# EAGLE library part 74*131 (library 74xx-eu)
3-line to 8-line DECODER/DEMULTIPLEXER, address register
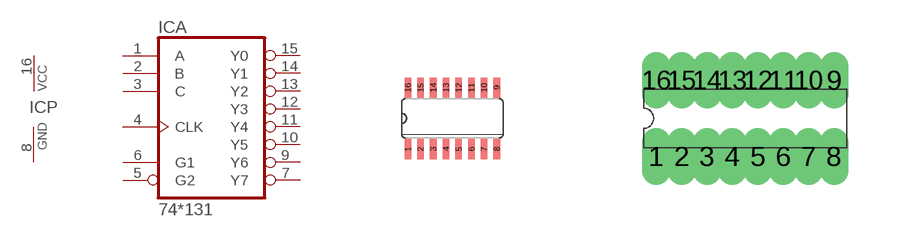
[diagram p85: symbol with the pads of SO16; footprints SO16, DIL16]

Designator prefix IC; gates A=74131 P=PWRN

## 74131D, 74HC131D  [SO16]
1  A:A  in
2  A:B  in
3  A:C  in
4  A:CLK  in
5  A:G2  in
6  A:G1  in
7  A:Y7  out
8  P:GND  pwr
9  A:Y6  out
10  A:Y5  out
11  A:Y4  out
12  A:Y3  out
13  A:Y2  out
14  A:Y1  out
15  A:Y0  out
16  P:VCC  pwr

## 74131N, 74HC131N  [DIL16]
Pads as for SO16

## Footprint SO16 (pad centres in mm)
Small Outline package 150 mil
smd 0.165 x 0.508: 1 -1.111,-0.768; 2 -0.794,-0.768; 3 -0.476,-0.768; 4 -0.159,-0.768; 5 0.159,-0.768; 6 0.476,-0.768; 7 0.794,-0.768; 8 1.111,-0.768; 9 1.111,0.768; 10 0.794,0.768; 11 0.476,0.768; 12 0.159,0.768; 13 -0.159,0.768; 14 -0.476,0.768; 15 -0.794,0.768; 16 -1.111,0.768

## Footprint DIL16 (pad centres in mm)
Dual In Line Package
drill 0.203 long: 1 -2.223,-0.953; 2 -1.587,-0.953; 3 -0.953,-0.953; 4 -0.318,-0.953; 5 0.318,-0.953; 6 0.953,-0.953; 7 1.587,-0.953; 8 2.223,-0.953; 9 2.223,0.953; 10 1.587,0.953; 11 0.953,0.953; 12 0.318,0.953; 13 -0.318,0.953; 14 -0.953,0.953; 15 -1.587,0.953; 16 -2.223,0.953